# Altium footprint library PcbLib_ZG.PcbLib: 87 footprints (part 5 of 6)
Each footprint in its own frame and in the unit in brackets; x right, y up, seen from the top. Pads: shape width x height; smd on the part's side, far side on the other; paste and mask are expansions set on the pad; w line width, h text height; cw(c..) or ccw(c..) is an arc to the next point about the centre after c.
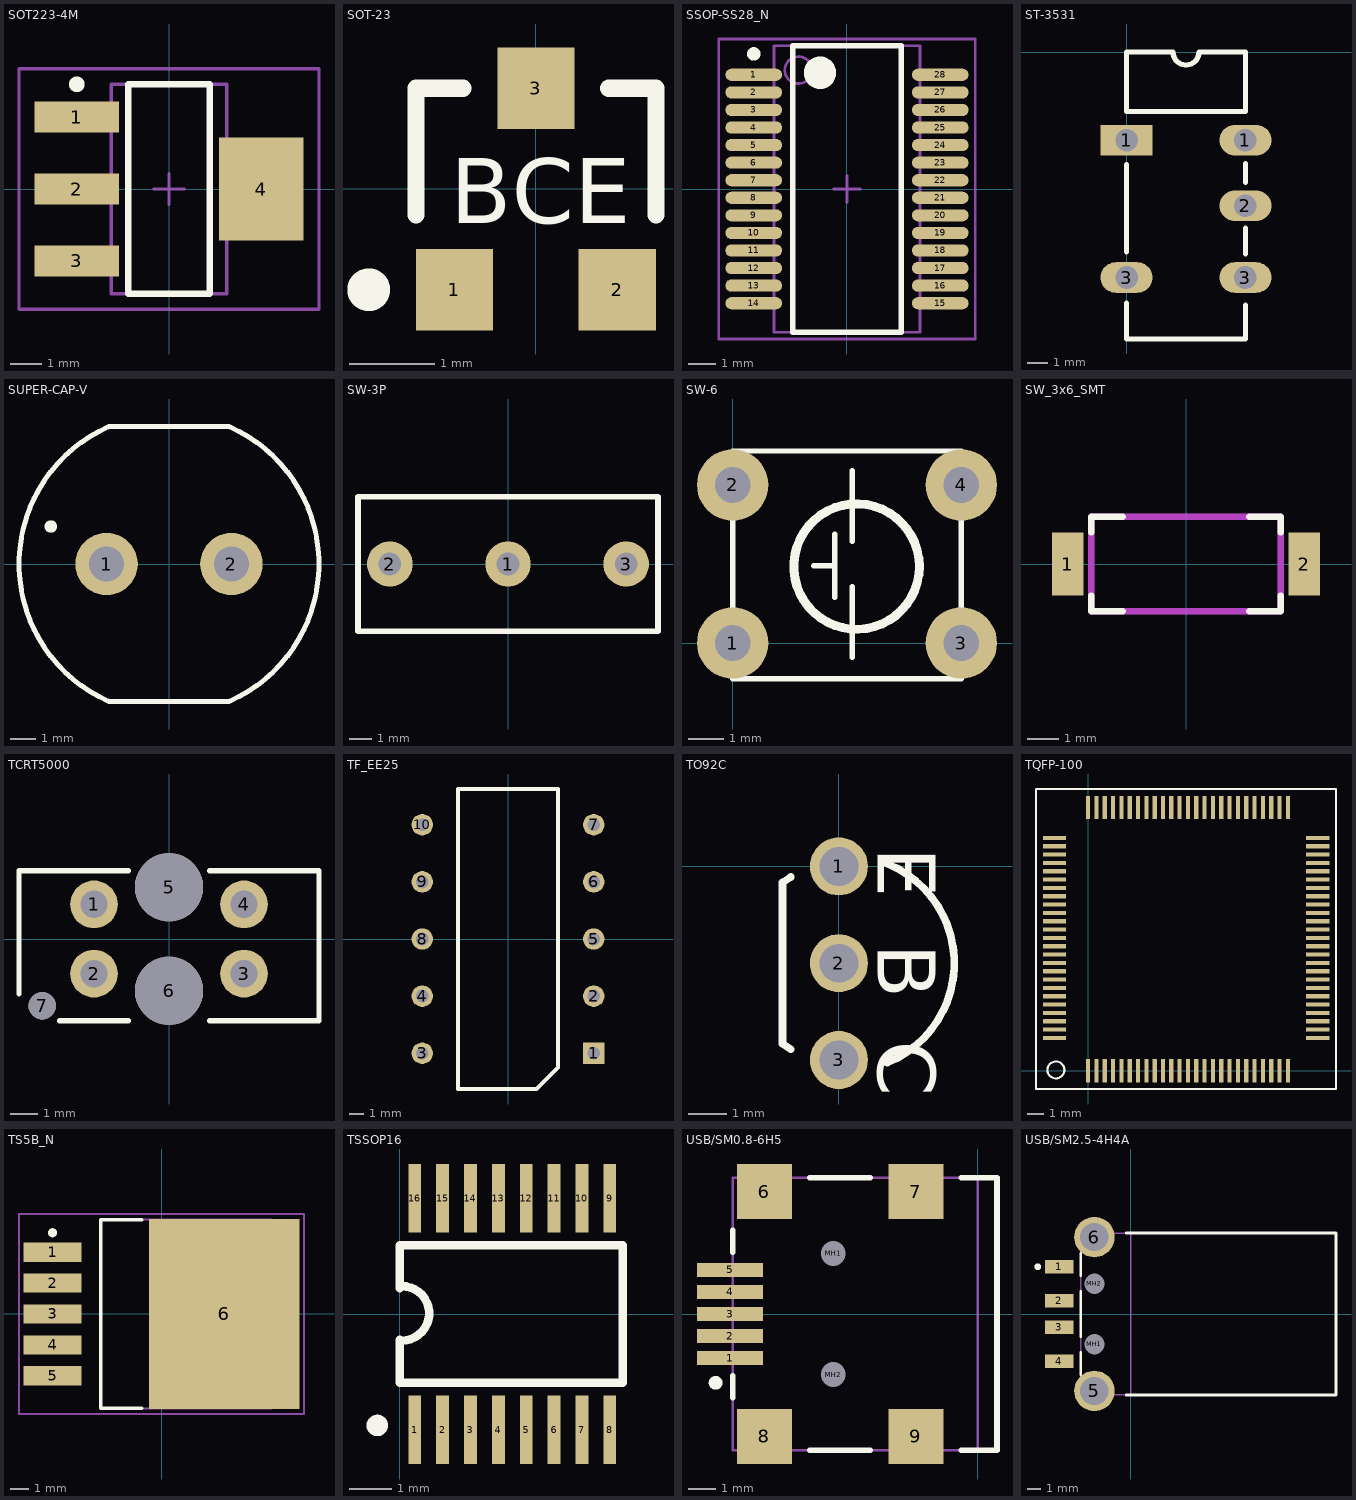
[diagram p4: the footprints below, top view; thin cyan lines are the x and y axes]

## SOT223-4M [mm] "SOT223, 4-Leads, Body 6.5x3.5mm, Pitch 2.3mm, Lead Span 7mm, IPC Low Density"
height 1.7
pads (4):
  rect 2.7x1 smd: 1(-2.95,2.3) 2(-2.95,0) 3(-2.95,-2.3)
  rect 2.7x3.3 smd: 4(2.95,0)
Top Overlay:
  circle w0.25: c-2.95,3.35 r0.125
  lines w0.2: -1.3,-3.35 1.3,-3.35 1.3,3.35 -1.3,3.35 -1.3,-3.35
Mechanical 13:
  lines w0.1: -1.85,-3.35 1.85,-3.35 1.85,3.35 -1.85,3.35 -1.85,-3.35
Mechanical 15:
  lines w0.1: -0.5,0 0.5,0 ; 0,-0.5 0,0.5 ; -4.8,-3.85 4.8,-3.85 4.8,3.85 -4.8,3.85 -4.8,-3.85
3D body: height 1.7, standoff 0, extent -1.85,-3.35 1.85,3.35

## SOT-23 [mm] "SOT-23; 3 Leads; Body 3.1 x 2.5 mm, inc. leads (LxW max)"
height 1.11
pads (3):
  rect 0.9x0.95 smd: 1(-0.95,-1.175) 2(0.95,-1.175) 3(0,1.175)
Top Overlay:
  circle w0.25: c-1.95,-1.175 r0.125
  lines w0.2: -1.4,-0.3 -1.4,1.175 -0.85,1.175 ; 0.85,1.175 1.4,1.175 1.4,-0.3
  text "BCE" at -1,-0.4 h0.76
3D body: height 1.25, standoff 0, extent -1.778,-0.762 1.778,0.762

## SSOP-SS28_N [mm] "SOP, 28-Leads, Body 10.2x5.2mm, Pitch 0.65mm, IPC Medium Density"
height 2
pads (28):
  oval 2.1x0.45 smd: 1(-3.45,4.225) 2(-3.45,3.575) 3(-3.45,2.925) 4(-3.45,2.275) 5(-3.45,1.625) 6(-3.45,0.975) 7(-3.45,0.325) 8(-3.45,-0.325) 9(-3.45,-0.975) 10(-3.45,-1.625) 11(-3.45,-2.275) 12(-3.45,-2.925) 13(-3.45,-3.575) 14(-3.45,-4.225) 15(3.45,-4.225) 16(3.45,-3.575) 17(3.45,-2.925) 18(3.45,-2.275) 19(3.45,-1.625) 20(3.45,-0.975) 21(3.45,-0.325) 22(3.45,0.325) 23(3.45,0.975) 24(3.45,1.625) 25(3.45,2.275) 26(3.45,2.925) 27(3.45,3.575) 28(3.45,4.225)
Top Overlay:
  circle w0.6: c-1,4.3 r0.3
  circle w0.25: c-3.45,5 r0.125
  lines w0.2: -2,-5.3 2,-5.3 2,5.3 -2,5.3 -2,-5.3
Mechanical 13:
  circle w0.1: c-1.8,4.4 r0.5
  lines w0.1: -2.7,-5.3 2.7,-5.3 2.7,5.3 -2.7,5.3 -2.7,-5.3
Mechanical 15:
  lines w0.1: -0.5,0 0.5,0 ; 0,-0.5 0,0.5 ; -4.75,-5.55 4.75,-5.55 4.75,5.55 -4.75,5.55 -4.75,-5.55
3D body: height 2, standoff 0, extent -2.7,-5.3 2.7,5.3

## ST-3531 [mm]
pads (5):
  rect 2.54x1.5 hole 1.1: 1(0,-4.3)
  oval 2.54x1.5 hole 1.1: 1(5.8,-4.3) 2(5.8,-7.5) 3(0,-11) 3(5.8,-11)
Top Overlay:
  lines w0.254: 0,-12.253 0,-14 5.8,-14 5.8,-12.347 ; 0,-9.759 0,-5.49 ; 5.8,-9.854 5.8,-8.584 ; 5.8,-6.35 5.8,-5.452 ; 0,-2.902 5.8,-2.902 5.8,0 3.535,0 cw(c2.9,0) 2.265,0 0,0 0,-2.902
3D body: height 6, standoff 0, extent 0,-13.97 5.8,0

## SUPER-CAP-V [mm] "Resister 12mm x 11mm x 2mm 9.5mm"
height 20
pads (2):
  round 2.5 hole 1.4: 1(-2.5,0) 2(2.5,0)
Top Overlay:
  circle w0.25: c-4.725,1.5 r0.125
  lines w0.2: -2.44,-5.481 cw(c0,0) -2.44,5.481 ; -2.4,-5.5 2.4,-5.5 ; -2.4,5.5 2.4,5.5 ; 2.44,-5.481 ccw(c0,0) 2.44,5.481
3D body: height 2, standoff 0, extent -6,-5.5 6,5.5

## SW-3P [mil]
height 255.91
pads (3):
  round 80 hole 40: 1(0,0) 2(-207.87,0) 3(207.87,0)
Top Overlay:
  lines w10: -263.78,-118.11 -263.78,118.11 263.78,118.11 263.78,-118.11 -263.78,-118.11
3D body: height 255.91, standoff 0, extent -263.78,-122.05 263.78,114.17

## SW-6 [mil]
pads (4):
  round 80 hole 40: 1(0,0) 2(0,177) 3(256,0) 4(256,177)
Top Overlay:
  circle w10: c138.74,85.67 r70.27
  lines w6: 90.55,86.61 114.17,86.61 ; 114.17,51.18 114.17,122.05 ; 133.86,-15.75 133.86,62.99 ; 133.86,114.17 133.86,192.91 ; 0,-40 0,215 256,215 256,-40 0,-40
3D body: height 236.22, standoff 118.11, extent 69.37,29.65 187.01,147.52
3D body: height 118.11, standoff 0, extent 0,-39.37 255.91,216.54

## SW_3x6_SMT [mm]
height 5
pads (2):
  rect 1x2 smd paste-2.1: 1(-3.75,0) 2(3.75,0)
Top Overlay:
  lines w0.2: -3,-1 -3,-1.5 -2,-1.5 ; -3,1 -3,1.5 -2,1.5 ; 2,-1.5 3,-1.5 3,-1 ; 2,1.5 3,1.5 3,1
Mechanical 1 keep-out:
  lines w0.2: -3,-1.5 3,-1.5 3,1.5 -3,1.5 -3,-1.5
3D body: height 3.2, standoff 0, extent -3,-1.5 3,1.5
3D body: height 4.5, standoff 3, extent -1.5,-0.5 1.5,0.5

## TCRT5000 [mm]
height 8
pads (7):
  round 1.75 hole 1 paste+0 mask-1.1: 1(-2.75,1.27) 2(-2.75,-1.27) 3(2.75,-1.27) 4(2.75,1.27)
  round 2.5 hole 2.5 paste+0 mask-1.1: 5(0,1.9) 6(0,-1.9)
  round 1 hole 1 paste+0 mask-1.1: 7(-4.65,-2.45)
Top Overlay:
  lines w0.2: -5.5,-2 -5.5,2.5 -1.5,2.5 ; -4,-3 -1.5,-3 ; 1.5,-3 5.5,-3 5.5,2.5 1.5,2.5
3D body: height 8, standoff 0, extent -5.5,-3 5.5,2.5

## TF_EE25 [mm] "EE25 变压器"
height 20
pads (10):
  rect 1.5x1.5 hole 0.9: 1(6,-8)
  round 1.5 hole 0.9: 2(6,-4) 3(-6,-8) 4(-6,-4) 5(6,0) 6(6,4) 7(6,8) 8(-6,0) 9(-6,4) 10(-6,8)
Top Overlay:
  lines w0.254: -3.5,-10.5 -3.5,10.5 3.5,10.5 3.5,-9 2,-10.5 -3.5,-10.5
3D body: height 20, standoff 0, extent -9,-12 9,12

## TO92C [mil]
pads (3):
  round 60 hole 40: 1(0,0) 2(0,-100) 3(0,-200)
Top Overlay:
  lines w7.87: -49.71,-189.08 -58.33,-183.33 -58.33,-16.67 -49.71,-10.92 ; 49.85,-202.76 ccw(c8.33,-100) 49.85,2.76
  text "B" at 40,-80 h60
  text "C" at 40,-180 h60
  text "E" at 40,20 h60
3D body: height 270.08, standoff 86.61, extent -59.08,-196.66 97.82,-0.19

## TQFP-100 [mm]
height 2
pads (100):
  rect 0.25x1.397 smd: 1(0.002,-0.001) 2(0.502,-0.001) 3(1.002,-0.001) 4(1.502,-0.001) 5(2.002,-0.001) 6(2.502,-0.001) 7(3.002,-0.001) 8(3.502,-0.001) 9(4.002,-0.001) 10(4.502,-0.001) 11(5.002,-0.001) 12(5.502,-0.001) 13(6.002,-0.001) 14(6.502,-0.001) 15(7.002,-0.001) 16(7.502,-0.001) 17(8.002,-0.001) 18(8.502,-0.001) 19(9.002,-0.001) 20(9.502,-0.001) 21(10.002,-0.001) 22(10.502,-0.001) 23(11.002,-0.001) 24(11.502,-0.001) 25(12.002,-0.001) 51(12.002,15.799) 52(11.502,15.799) 53(11.002,15.799) 54(10.502,15.799) 55(10.002,15.799) 56(9.502,15.799) 57(9.002,15.799) 58(8.502,15.799) 59(8.002,15.799) 60(7.502,15.799) 61(7.002,15.799) 62(6.502,15.799) 63(6.002,15.799) 64(5.502,15.799) 65(5.002,15.799) 66(4.502,15.799) 67(4.002,15.799) 68(3.502,15.799) 69(3.002,15.799) 70(2.502,15.799) 71(2.002,15.799) 72(1.502,15.799) 73(1.002,15.799) 74(0.502,15.799) 75(0.002,15.799)
  rect 1.397x0.25 smd: 26(13.795,1.976) 27(13.795,2.476) 28(13.795,2.976) 29(13.795,3.476) 30(13.795,3.976) 31(13.795,4.476) 32(13.795,4.976) 33(13.795,5.476) 34(13.795,5.976) 35(13.795,6.476) 36(13.795,6.976) 37(13.795,7.476) 38(13.795,7.976) 39(13.795,8.476) 40(13.795,8.976) 41(13.795,9.476) 42(13.795,9.976) 43(13.795,10.476) 44(13.795,10.976) 45(13.795,11.476) 46(13.795,11.976) 47(13.795,12.476) 48(13.795,12.976) 49(13.795,13.476) 50(13.795,13.976) 76(-2.005,13.976) 77(-2.005,13.476) 78(-2.005,12.976) 79(-2.005,12.476) 80(-2.005,11.976) 81(-2.005,11.476) 82(-2.005,10.976) 83(-2.005,10.476) 84(-2.005,9.976) 85(-2.005,9.476) 86(-2.005,8.976) 87(-2.005,8.476) 88(-2.005,7.976) 89(-2.005,7.476) 90(-2.005,6.976) 91(-2.005,6.476) 92(-2.005,5.976) 93(-2.005,5.476) 94(-2.005,4.976) 95(-2.005,4.476) 96(-2.005,3.976) 97(-2.005,3.476) 98(-2.005,2.976) 99(-2.005,2.476) 100(-2.005,1.976)
Top Overlay:
  circle w0.127: c-1.928,0.051 r0.508
  lines w0.127: -3.122,-1.092 14.887,-1.092 14.887,16.916 -3.122,16.916 -3.122,-1.092

## TS5B_N [mm] "D2-PAK, 6-Leads, Body 8.6x10.2mm, Pitch 1.7mm, Lead Span 14.1mm, IPC Medium Density"
height 4.65
pads (6):
  rect 3.2x1.05 smd: 1(-6,3.4) 2(-6,1.7) 3(-6,0) 4(-6,-1.7) 5(-6,-3.4)
  rect 8.3x10.45 smd: 6(3.45,0)
Top Overlay:
  circle w0.25: c-6,4.475 r0.125
  lines w0.2: -1.1,-5.2 -3.35,-5.2 -3.35,5.2 -1.1,5.2
Mechanical 13:
  lines w0.1: -3.35,-5.2 -3.35,5.2 6.05,5.2 6.05,-5.2 -3.35,-5.2
Mechanical 15:
  lines w0.1: -0.5,0 0.5,0 ; 0,-0.5 0,0.5 ; -7.85,-5.5 -7.85,5.5 7.85,5.5 7.85,-5.5 -7.85,-5.5
3D body: height 4.65, standoff 0, extent -3.35,-5.2 6.05,5.2

## TSSOP16 [mm]
pads (16):
  rect 0.3x1.6 smd: 1(0.35,-2.7) 2(1,-2.7) 3(1.65,-2.7) 4(2.3,-2.7) 5(2.95,-2.7) 6(3.6,-2.7) 7(4.25,-2.7) 8(4.9,-2.7) 9(4.9,2.7) 10(4.25,2.7) 11(3.6,2.7) 12(2.95,2.7) 13(2.3,2.7) 14(1.65,2.7) 15(1,2.7) 16(0.35,2.7)
Top Overlay:
  circle w0.25: c-0.525,-2.6 r0.125
  lines w0.2: 0,-0.6 0,-1.6 5.2,-1.6 5.2,1.6 0,1.6 0,0.6 ; 0.05,-0.62 ccw(c0.05,0.015) 0.05,0.65

## USB/SM0.8-6H5 [mm] "Connector; USB2.0, Type B, SM; 5 Position; Right Angle"
height 3.9
pads (11):
  rect 2.4x0.5 smd paste-2.4: 1(-9,-1.6) 2(-9,-0.8) 3(-9,0) 4(-9,0.8) 5(-9,1.6)
  rect 2x2 smd paste-2.6: 6(-7.75,4.45) 7(-2.25,4.45) 8(-7.75,-4.45) 9(-2.25,-4.45)
  round 0.6 hole 0.9 unplated: MH1(-5.25,2.2) MH2(-5.25,-2.2)
Top Overlay:
  circle w0.25: c-9.525,-2.5 r0.125
  lines w0.2: -8.9,-3.05 -8.9,-2.25 ; -8.9,2.25 -8.9,3.05 ; -6.1,-4.95 -3.9,-4.95 ; -6.1,4.95 -3.9,4.95 ; -0.6,-4.95 0.7,-4.95 0.7,4.95 -0.6,4.95
Mechanical 1:
  lines w0.1: 0,-4.95 0,4.95
  text "PCB Edge" at 0.432,-4.036 h0.25
Mechanical 13:
  lines w0.1: -8.9,-4.95 0.7,-4.95 0.7,4.95 -8.9,4.95 -8.9,-4.95
3D body: height 3.9, standoff 0, extent -8.9,-4.95 0.7,4.95

## USB/SM2.5-4H4A [mm] "Connector; USB1.1, Type A, SM; 4 Position; Right Angle"
height 4.5
pads (8):
  rect 2.1x1 smd paste-2.2: 1(-5.3,3.5) 2(-5.3,1) 3(-5.3,-1) 4(-5.3,-3.5)
  round 3 hole 2.1: 5(-2.7,-5.7) 6(-2.7,5.7)
  round 1.2 hole 1.5 unplated: MH1(-2.7,-2.25) MH2(-2.7,2.25)
Top Overlay:
  circle w0.25: c-6.9,3.5 r0.125
  lines w0.2: -3.7,-4.475 -3.7,-2.83 ; -3.7,-1.68 -3.7,1.68 ; -3.7,2.83 -3.7,4.475 ; -0.33,-6 15.2,-6 15.2,6 -0.33,6
Mechanical 1:
  lines w0.1: 0,-6 0,6
  text "PCB Edge" at 0.473,-5.173 h0.25
Mechanical 13:
  lines w0.1: -3.7,-6 -3.7,6 15.2,6 15.2,-6 -3.7,-6
3D body: height 3, standoff -1.5, extent -3.7,-6 15.2,6